# EAGLE library part STV5730A (library st-microelectronics)
Multistandard ON-SCREEN DISPLAY for VCR, PAY-TV Satellite receiver
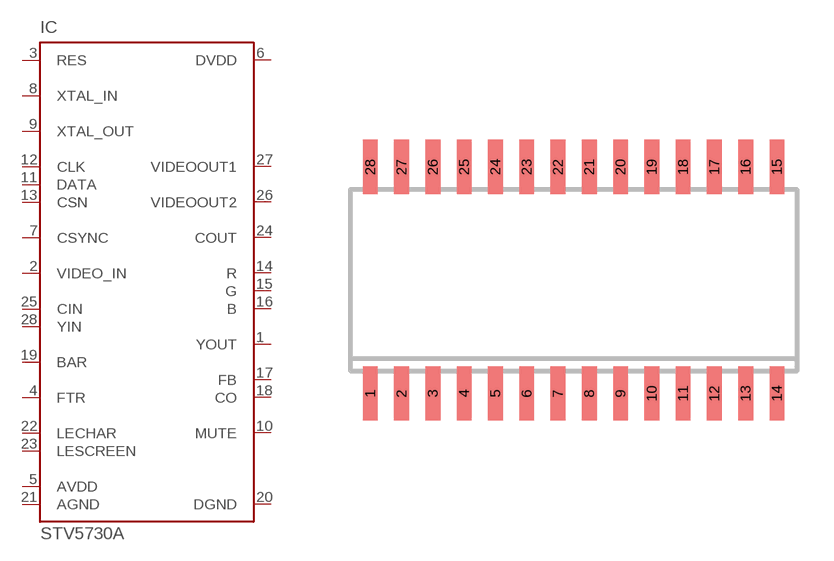
[diagram p18: symbol with the pads of SO28W; footprint SO28W]

Designator prefix IC

## STV5730A (OC_FARNELL: unknown; OC_NEWARK: unknown)  [SO28W]
1  YOUT  out
2  VIDEO_IN  in
3  RES  in
4  FTR  in
5  AVDD  pwr
6  DVDD  pwr
7  CSYNC
8  XTAL_IN  in
9  XTAL_OUT  out
10  MUTE  out
11  DATA  in
12  CLK  in
13  CSN  in
14  R  out
15  G  out
16  B  out
17  FB  out
18  CO  out
19  BAR  in
20  DGND  pwr
21  AGND  pwr
22  LECHAR  in
23  LESCREEN  in
24  COUT  out
25  CIN  in
26  VIDEOOUT2  out
27  VIDEOOUT1  out
28  YIN  in

## Footprint SO28W (pad centres in mm)
SMALL OUTLINE INTEGRATED CIRCUIT wide body 7.5 mm/JEDEC MO-119AB
smd 0.6 x 2.2: 1 -8.255,-4.6; 2 -6.985,-4.6; 3 -5.715,-4.6; 4 -4.445,-4.6; 5 -3.175,-4.6; 6 -1.905,-4.6; 7 -0.635,-4.6; 8 0.635,-4.6; 9 1.905,-4.6; 10 3.175,-4.6; 11 4.445,-4.6; 12 5.715,-4.6; 13 6.985,-4.6; 14 8.255,-4.6; 15 8.255,4.6; 16 6.985,4.6; 17 5.715,4.6; 18 4.445,4.6; 19 3.175,4.6; 20 1.905,4.6; 21 0.635,4.6; 22 -0.635,4.6; 23 -1.905,4.6; 24 -3.175,4.6; 25 -4.445,4.6; 26 -5.715,4.6; 27 -6.985,4.6; 28 -8.255,4.6